# Altium footprint library other.pcblib: 21 footprints (part 2 of 2)
Each footprint in its own frame and in the unit in brackets; x right, y up, seen from the top. Pads: shape width x height; smd on the part's side, far side on the other; paste and mask are expansions set on the pad; w line width, h text height; cw(c..) or ccw(c..) is an arc to the next point about the centre after c.
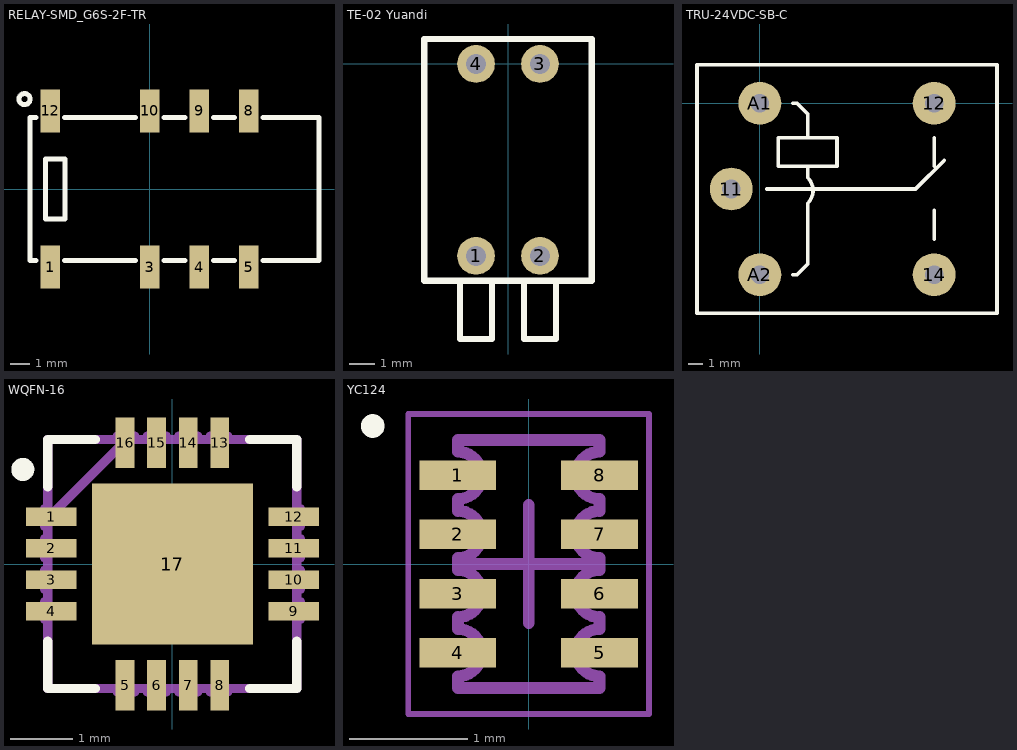
[diagram p1: the footprints below, top view; thin cyan lines are the x and y axes]

## RELAY-SMD_G6S-2F-TR [mm]
pads (8):
  rect 1x2.2 smd: 1(-5.08,-4) 3(0,-4) 4(2.54,-4) 5(5.08,-4) 8(5.08,4) 9(2.54,4) 10(0,4) 12(-5.08,4)
Top Overlay:
  circle w0.254: c-6.4,4.6 r0.283
  lines w0.254: -5.811,-3.65 -6.13,-3.65 -6.13,3.65 -5.811,3.65 ; -4.349,-3.65 -0.731,-3.65 ; -4.349,3.65 -0.731,3.65 ; 0.731,-3.65 1.809,-3.65 ; 0.731,3.65 1.809,3.65 ; 3.271,-3.65 4.349,-3.65 ; 3.271,3.65 4.349,3.65 ; 5.811,-3.65 8.67,-3.65 8.67,3.65 5.811,3.65 ; -5.334,-1.524 -4.318,-1.524 -4.318,1.524 -5.334,1.524 -5.334,-1.524
3D body "G6S-2F-TR DC12--3DModel-STEP-1.STEP": height 9.2, standoff 0, extent -6.1,-4.6 8.7,4.6

## TE-02 Yuandi [mm] "DIP Switch"
pads (4):
  round 1.5 hole 0.8: 1(-1.27,-7.62) 2(1.27,-7.62) 3(1.27,0) 4(-1.27,0)
Top Overlay:
  lines w0.254: -1.905,-8.636 -1.905,-10.922 -0.635,-10.922 -0.635,-8.636 ; 0.635,-8.636 0.635,-10.922 1.905,-10.922 1.905,-8.636 ; -3.32,-8.61 -3.32,0.99 3.32,0.99 3.32,-8.61 -3.32,-8.61
3D body "a6er-2104.stp": height 10.3, standoff -3.1, extent -3.302,-10.922 3.338,1.678

## TRU-24VDC-SB-C [mm] "Relay"
pads (5):
  round 3 hole 1.3: 11(-2,-6) 12(12.2,0) 14(12.2,-12) A1(0,0) A2(0,-12)
Top Overlay:
  lines w0.254: 0.5,-6 10.9,-6 12.9,-4 11.1,-5.8 ; 2.3,-12 2.6,-12 3.35,-11.25 3.35,-10.2 3.35,-7 ccw(c2.45,-6.1) 3.35,-5.2 3.35,-4.4 ; 2.3,0 2.6,0 3.35,-0.75 3.35,-2.4 ; 12.2,-9.5 12.2,-7.5 ; 12.2,-4.4 12.2,-2.4 ; -4.4,-14.7 16.6,-14.7 16.6,2.7 -4.4,2.7 -4.4,-14.7 ; 1.3,-4.4 5.4,-4.4 5.4,-2.4 1.3,-2.4 1.3,-4.4
3D body "User Library-TRU-XXVDC-SX-CX-R.step": height 20.51, standoff -4.49, extent -4.05,-14.4 16.25,2.4

## WQFN-16 [mil]
pads (17):
  rect 32x12 smd: 1(-77,30) 2(-77,10) 3(-77,-10) 4(-77,-30) 9(77,-30) 10(77,-10) 11(77,10) 12(77,30)
  rect 12x32 smd: 5(-30,-77) 6(-10,-77) 7(10,-77) 8(30,-77) 13(30,77) 14(10,77) 15(-10,77) 16(-30,77)
  rect 102x102 smd: 17(0,0)
Top Overlay:
  circle w9.84: c-95,60 r2.38
  lines w6: -79,-49 -79,-79 -49,-79 ; -79,49 -79,79 -49,79 ; 49,-79 79,-79 79,-49 ; 49,79 79,79 79,49
Plata3D:
  lines w6: -79,29 -29,79 ; -81,-35 -81,-24 -79,-24 -79,-35 -81,-35 ; -81,-16 -81,-4 -79,-4 -79,-16 -81,-16 ; -81,4 -81,16 -79,16 -79,4 -81,4 ; -81,24 -81,35 -79,35 -79,24 -81,24 ; -79,-79 79,-79 79,79 -79,79 -79,-79 ; -35,-81 -35,-79 -24,-79 -24,-81 -35,-81 ; -35,79 -24,79 -24,81 -35,81 -35,79 ; -16,-81 -16,-79 -4,-79 -4,-81 -16,-81 ; -16,79 -4,79 -4,81 -16,81 -16,79 ; 4,-81 4,-79 16,-79 16,-81 4,-81 ; 4,79 16,79 16,81 4,81 4,79 ; 24,-81 24,-79 35,-79 35,-81 24,-81 ; 24,79 35,79 35,81 24,81 24,79 ; 79,-35 79,-24 81,-24 81,-35 79,-35 ; 79,-16 79,-4 81,-4 81,-16 79,-16 ; 79,4 79,16 81,16 81,4 79,4 ; 79,24 79,35 81,35 81,24 79,24
3D body "WQFN-16.STEP": height 32, standoff 0.5, extent -78.74,-78.74 78.74,78.74

## YC124 [mm] "Resistor chip array Yageo"
pads (8):
  rect 0.65x0.25 smd: 1(-0.6,0.75) 2(-0.6,0.25) 3(-0.6,-0.25) 4(-0.6,-0.75) 5(0.6,-0.75) 6(0.6,-0.25) 7(0.6,0.25) 8(0.6,0.75)
Top Overlay:
  circle w0.1: c-1.321,1.168 r0.05
Plata:
  lines w0.05: -1.02,-1.27 1.02,-1.27 1.02,1.27 -1.02,1.27 -1.02,-1.27
  lines w0.1: -0.5,0 0.5,0 ; 0,-0.5 0,0.5
Plata3D:
  lines w0.1: -0.6,-1.05 -0.6,-0.95 ccw(c-0.6,-0.75) -0.6,-0.55 -0.6,-0.45 ccw(c-0.6,-0.25) -0.6,-0.05 -0.6,0.05 ccw(c-0.6,0.25) -0.6,0.45 -0.6,0.55 ccw(c-0.6,0.75) -0.6,0.95 -0.6,1.05 0.6,1.05 0.6,0.95 ccw(c0.6,0.75) 0.6,0.55 0.6,0.45 ccw(c0.6,0.25) 0.6,0.05 0.6,-0.05 ccw(c0.6,-0.25) 0.6,-0.45 0.6,-0.55 ccw(c0.6,-0.75) 0.6,-0.95 0.6,-1.05 -0.6,-1.05
3D body "CAC-50P200X100-8L.step": height 0.5, standoff 0, extent -0.6,-1.05 0.6,1.05